# Altium footprint library QFN50P200X150X60_HS-11N.PcbLib: 1 footprints
Each footprint in its own frame and in the unit in brackets; x right, y up, seen from the top. Pads: shape width x height; smd on the part's side, far side on the other; paste and mask are expansions set on the pad; w line width, h text height; cw(c..) or ccw(c..) is an arc to the next point about the centre after c.
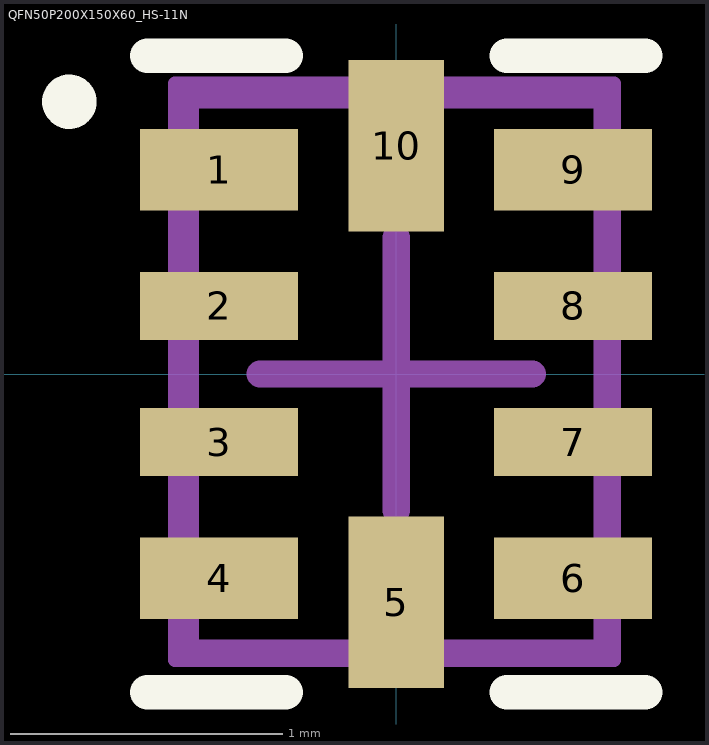
[diagram p0: the footprint, top view; thin cyan lines are the x and y axes]

## QFN50P200X150X60_HS-11N [mm] "QFN, 10-Leads, Body 2.00x1.50mm, Pitch 0.50mm, Thermal Pad 1.75x0.30mm, IPC Medium Density"
height 0.6
pads (10):
  rect 0.58x0.3 smd mask+0: 1(-0.65,0.75) 4(-0.65,-0.75) 6(0.65,-0.75) 9(0.65,0.75)
  rect 0.58x0.25 smd mask+0: 2(-0.65,0.25) 3(-0.65,-0.25) 7(0.65,-0.25) 8(0.65,0.25)
  rect 0.35x0.63 smd mask+0: 5(0,-0.838) 10(0,0.838)
Top Overlay:
  circle w0.1: c-1.2,1 r0.05
  lines w0.127: -0.914,-1.168 -0.406,-1.168 ; -0.914,1.168 -0.406,1.168 ; 0.406,-1.168 0.914,-1.168 ; 0.406,1.168 0.914,1.168
Mechanical 13:
  lines w0.1: -0.775,-1.025 0.775,-1.025 0.775,1.025 -0.775,1.025 -0.775,-1.025
Mechanical 15:
  lines w0.05: -0.813,-1.05 0.8,-1.05 0.8,1.067 -0.813,1.067 -0.813,-1.05
  lines w0.1: -0.5,0 0.5,0 ; 0,-0.5 0,0.5
3D body: height 0.55, standoff -0.05, extent -0.8,-1.05 0.8,1.05